# Altium footprint library DigiTune.PcbLib: 11 footprints
Each footprint in its own frame and in the unit in brackets; x right, y up, seen from the top. Pads: shape width x height; smd on the part's side, far side on the other; paste and mask are expansions set on the pad; w line width, h text height; cw(c..) or ccw(c..) is an arc to the next point about the centre after c.
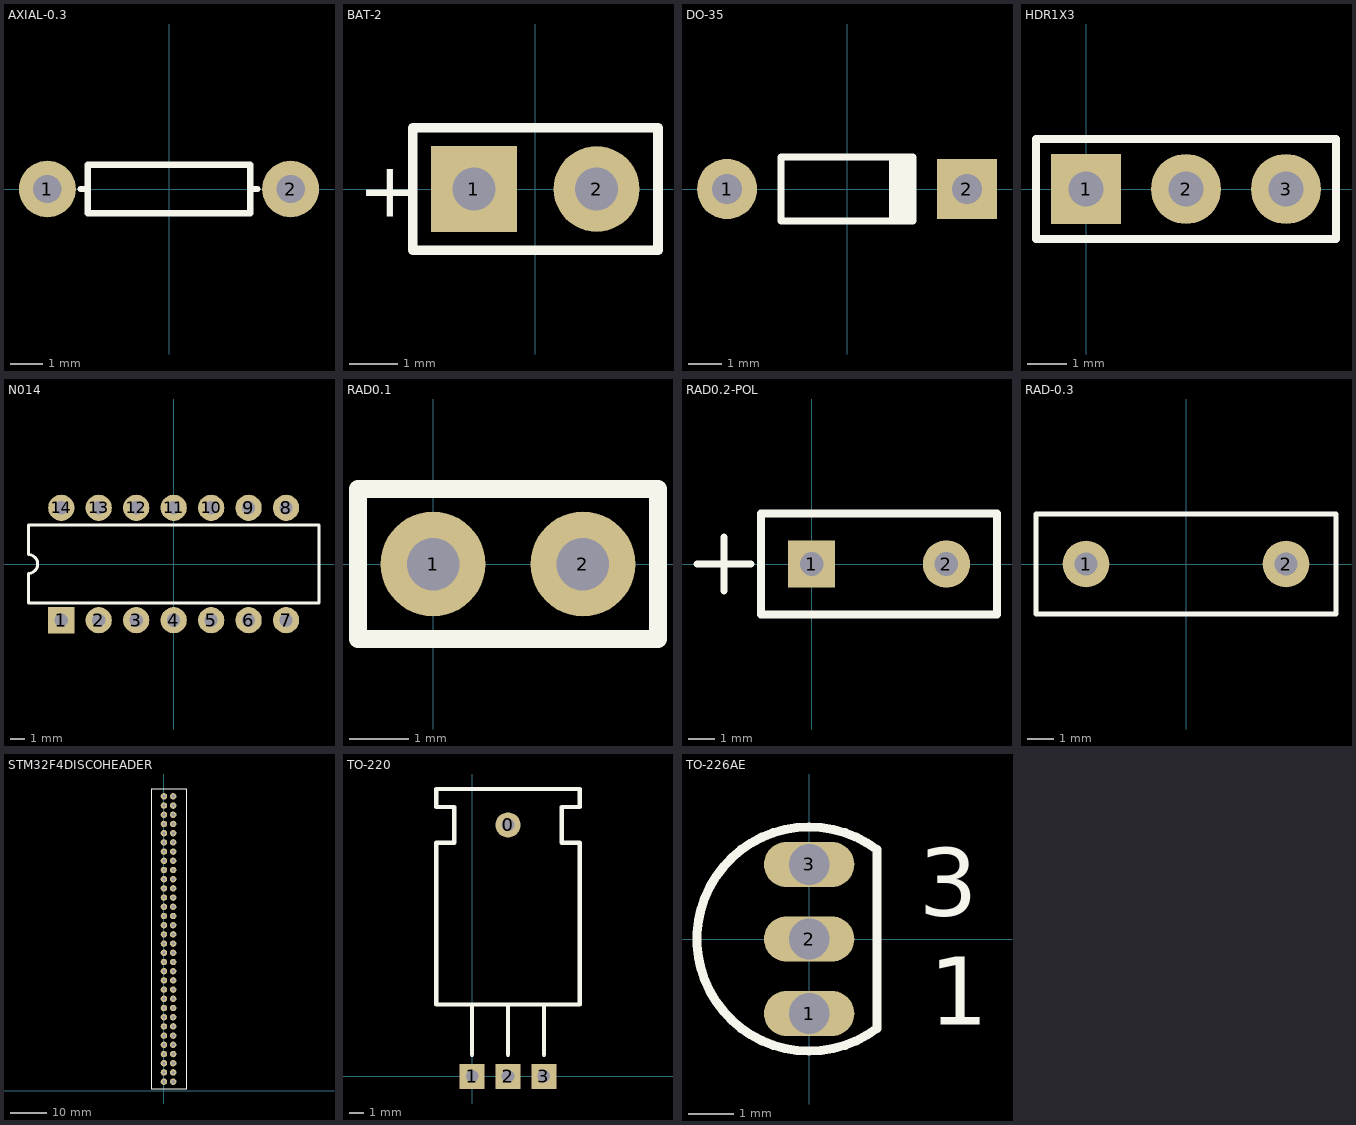
[diagram p0: the footprints below, top view; thin cyan lines are the x and y axes]

## AXIAL-0.3 [mil] "Axial Device, Thru-Hole; 2 Leads; 0.3 in Pin Spacing"
height 60
pads (2):
  round 70 hole 35: 1(-150,0) 2(150,0)
Top Overlay:
  lines w7.87: -109,0 -100,0 ; 109,0 100,0 ; 100,0 100,30 -100,30 -100,-30 100,-30 100,0

## BAT-2 [mil] "Battery; 2 Leads"
pads (2):
  rect 70x70 hole 35: 1(-50,0)
  round 70 hole 35: 2(50,0)
Top Overlay:
  lines w7.87: -100,-50 -100,50 100,50 100,-50 -100,-50
  text "+" at -144.49,-22.72 h45.28

## DO-35 [mil] "Diode, Axial; Body 3.8 x 1.9 mm (LxDia. max), Lead Dia. 0.53 mm (max)"
height 74.8
pads (2):
  round 70 hole 35: 1(-139.76,0)
  rect 70x70 hole 35: 2(139.76,0)
Top Overlay:
  rectangle: 49.21,-37.4 80.71,37.4
  lines w7.87: 76.77,-37.4 -76.77,-37.4 -76.77,37.4 76.77,37.4

## HDR1X3 [mil] "Connector; Header; 3 Position"
pads (3):
  rect 70x70 hole 35: 1(0,0)
  round 70 hole 35: 2(100,0) 3(200,0)
Top Overlay:
  lines w7.87: -50,-50 250,-50 250,50 -50,50 -50,-50

## N014 [mil] "DIP; 14 Leads; Row Spacing 7.62 mm; Pitch 2.54 mm"
height 200
pads (14):
  rect 70x70 hole 35: 1(-300,-150)
  round 70 hole 35: 2(-200,-150) 3(-100,-150) 4(0,-150) 5(100,-150) 6(200,-150) 7(300,-150) 8(300,150) 9(200,150) 10(100,150) 11(0,150) 12(-100,150) 13(-200,150) 14(-300,150)
Top Overlay:
  lines w7.87: -387.79,-104.33 387.8,-104.33 387.8,104.33 -387.79,104.33 -387.79,25 cw(c-387.8,0) -387.8,-25 -387.79,-104.33

## RAD0.1 [mil]
pads (2):
  round 70 hole 35: 1(0,0) 2(100,0)
Top Overlay:
  lines w12: -50,-50 150,-50 150,50 -50,50 -50,-50

## RAD0.2-POL [mil]
pads (2):
  rect 70x70 hole 35: 1(0,0)
  round 70 hole 35: 2(200,0)
Top Overlay:
  lines w10: -170,0 -90,0 ; -130,-40 -130,40
  lines w12: -75,-75 275,-75 275,75 -75,75 -75,-75

## RAD-0.3 [mil] "Radial Cap, Thru-Hole; 2 Leads; 0.3 in Pin Spacing"
height 236.22
pads (2):
  round 70 hole 35: 1(-150,0) 2(150,0)
Top Overlay:
  lines w7.87: -225,-75 225,-75 225,75 -225,75 -225,-75

## STM32F4DISCOHEADER [mil]
pads (64):
  round 70 hole 35.4: 1(0,3200) 2(100,3200) 3(0,3100) 4(100,3100) 5(0,3000) 6(100,3000) 7(0,2900) 8(100,2900) 9(0,2800) 10.(100,2800) 11(0,2700) 12(100,2700) 13(0,2600) 14(100,2600) 15(0,2500) 16(100,2500) 17(0,2400) 18(100,2400) 19(0,2300) 20(100,2300) 21(0,2200) 22(100,2200) 23(0,2100) 24(100,2100) 25(0,2000) 26(100,2000) 27(0,1900) 28(100,1900) 29(0,1800) 30(100,1800) 31(0,1700) 32(100,1700) 33(0,1600) 34(100,1600) 35(0,1500) 36(100,1500) 37(0,1400) 38(100,1400) 39(0,1300) 40(100,1300) 41(0,1200) 42(100,1200) 43(0,1100) 44(100,1100) 45(0,1000) 46(100,1000) 47(0,900) 48(100,900) 49(0,800) 50(100,800) 51(0,700) 52(100,700) 53(0,600) 54(100,600) 55(0,500) 56(100,500) 57(0,400) 58(100,400) 59(0,300) 60(100,300) 61(0,200) 62(100,200) 63(0,100) 64(100,100)
Top Overlay:
  lines w10: -140,20 250,20 250,3280 -135,3280 -135,25 -140,20

## TO-220 [mil]
pads (4):
  round 70 hole 35: 0(100,700)
  rect 70x70 hole 35: 1(0,0) 2(100,0) 3(200,0)
Top Overlay:
  lines w12: 0,60 0,200 ; 100,60 100,200 ; 200,60 200,200 ; -100,200 300,200 300,650 250,650 250,750 300,750 300,800 -100,800 -100,750 -50,750 -50,650 -100,650 -100,200

## TO-226AE [mm] "TO, Flat Index; 3 In-Line, Axial Leads; Body Dia. 4.5mm; Leads 0.51 x 0.48 mm (max)"
height 7.87
pads (3):
  oval 2x1 hole 0.9: 1(0,-1.651) 2(0,0) 3(0,1.651)
Top Overlay:
  lines w0.2: 1.5,-1.98 cw(c0,0) 1.5,1.98 1.5,-1.98
  text "1" at 2.66,-1.9 h1.5
  text "3" at 2.43,0.51 h1.5